# Altium footprint library Potentiometers.PcbLib: 4 footprints
Each footprint in its own frame and in the unit in brackets; x right, y up, seen from the top. Pads: shape width x height; smd on the part's side, far side on the other; paste and mask are expansions set on the pad; w line width, h text height; cw(c..) or ccw(c..) is an arc to the next point about the centre after c.
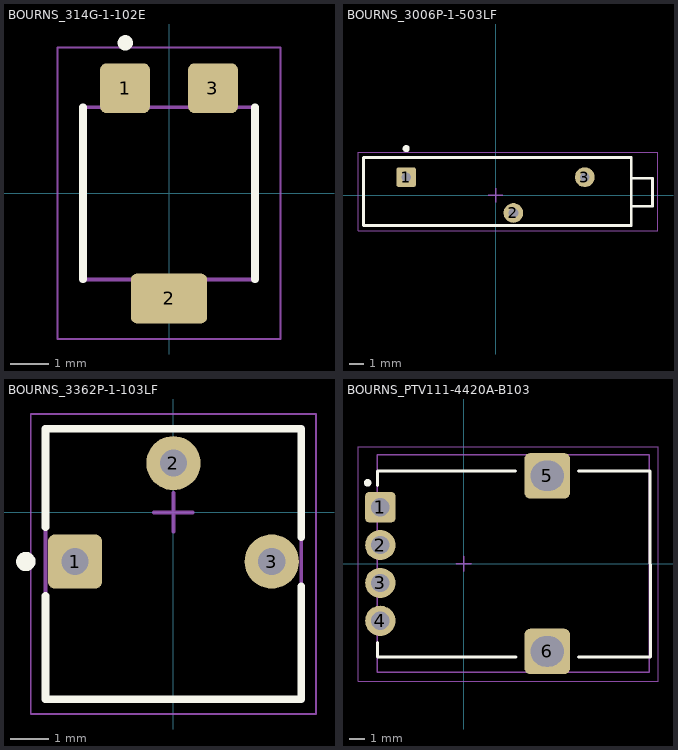
[diagram p0: the footprints below, top view; thin cyan lines are the x and y axes]

## BOURNS_314G-1-102E [mm] "10 kOhms 0.25W, 1/4W Gull Wing Surface Mount Trimmer Potentiometer Cermet 1.0 Turn Top Adjustment"
height 2.726
pads (3):
  rrect25% 1.3x1.3 smd paste+0 mask+0.05: 1(-1.15,2.75) 3(1.15,2.75)
  rrect25% 2x1.3 smd paste+0 mask+0.05: 2(0,-2.75)
Top Overlay:
  circle w0.2: c-1.143,3.937 r0.1
  lines w0.2: -2.25,-2.25 -2.25,2.25 ; 2.25,-2.25 2.25,2.25
Top Component Outline:
  lines w0.1: -2.25,-2.25 -2.25,2.25 2.25,2.25 2.25,-2.25 -2.25,-2.25
Top Courtyard:
  lines w0.05: -2.921,-3.81 -2.921,3.81 2.921,3.81 2.921,-3.81 -2.921,-3.81
Top Designator:
  text ".Designator" at -4.04,-0.476 h2
Top Assembly:
  lines w0.1: -2.25,-2.25 -2.25,2.25 2.25,2.25 2.25,-2.25 -2.25,-2.25
  text ".Designator" at -4.04,-0.476 h2
3D body "BOURNS_3314G-1-103E.step": height 2.73, standoff 0, extent -2.5,-3.099 2.5,3.099

## BOURNS_3006P-1-503LF [mm] "50 kOhms 0.75W, 3/4W PC Pins Through Hole Trimmer Potentiometer Cermet 15.0 Turn Side Adjustment"
height 6.6
pads (3):
  rrect25% 1.4x1.4 hole 0.7 paste-1000 mask+0.05: 1(-6.35,1.27)
  round 1.4 hole 0.7 paste-1000 mask+0.05: 2(1.27,-1.27) 3(6.35,1.27)
Top Overlay:
  circle w0.3: c-6.35,3.302 r0.1
  lines w0.2: 9.65,-0.8 11.17,-0.8 11.17,1.2 9.65,1.2 ; -9.398,-2.159 9.65,-2.159 9.65,2.667 -9.398,2.667 -9.398,-2.159
Top Component Outline:
  lines w0.1: 9.65,-0.8 11.17,-0.8 11.17,1.2 9.65,1.2 ; -9.398,-2.159 9.65,-2.159 9.65,2.667 -9.398,2.667 -9.398,-2.159
Top Courtyard:
  lines w0.05: -9.779,-2.54 11.557,-2.54 11.557,3.048 -9.779,3.048 -9.779,-2.54
Top Component Center:
  lines w0.1: -0.5,0 0.5,0 ; 0,-0.5 0,0.5
Top Designator:
  text ".Designator" at -4.04,-0.476 h2
Top Assembly:
  lines w0.1: 9.65,-0.8 11.17,-0.8 11.17,1.2 9.65,1.2 ; -9.398,-2.159 9.65,-2.159 9.65,2.667 -9.398,2.667 -9.398,-2.159
  text ".Designator" at -4.04,-0.476 h2
3D body "BOURNS_3006P-1-503LF.step": height 6.62, standoff -5.31, extent -9.398,-2.159 11.176,2.667

## BOURNS_3362P-1-103LF [mm] "10 kOhms 0.5W, 1/2W PC Pins Through Hole Trimmer Potentiometer Cermet 1.0 Turn Top Adjustment"
height 4.88
pads (3):
  rrect25% 1.4x1.4 hole 0.7 paste-1000 mask+0.05: 1(-2.54,-1.27)
  round 1.4 hole 0.7 paste-1000 mask+0.05: 2(0,1.27) 3(2.54,-1.27)
Top Overlay:
  circle w0.3: c-3.81,-1.27 r0.1
  lines w0.2: -3.302,-2.159 -3.302,-4.826 3.302,-4.826 3.302,-1.905 ; -3.302,-0.381 -3.302,2.159 3.302,2.159 3.302,-0.635
Top Component Outline:
  lines w0.1: -3.302,-4.826 -3.302,2.159 3.302,2.159 3.302,-4.826 -3.302,-4.826
Top Courtyard:
  lines w0.05: -3.683,-5.207 3.683,-5.207 3.683,2.54 -3.683,2.54 -3.683,-5.207
Top Component Center:
  lines w0.1: -0.5,0 0.5,0 ; 0,-0.5 0,0.5
Top Designator:
  text ".Designator" at -4.04,-0.476 h2
Top Assembly:
  lines w0.1: -3.302,-4.826 3.302,-4.826 3.302,2.159 -3.302,2.159 -3.302,-4.826
  text ".Designator" at -4.04,-0.476 h2
3D body "BOURNS_3362P-1-103LF.step": height 4.9, standoff -5.82, extent -3.275,-4.841 3.325,2.149

## BOURNS_PTV111-4420A-B103 [mm] "10k Ohm 1 Gang Linear Through Hole, Snap In Potentiometer None 1.0 Kierros Carbon 0.05W, 1/20W PC Pins, Board Locks"
pads (6):
  rrect25% 2x2 hole 1.2 paste+0 mask+0.05: 1(-5.512,3.725)
  round 2 hole 1.2 paste+0 mask+0.05: 2(-5.512,1.225) 3(-5.512,-1.275) 4(-5.512,-3.775)
  rrect25% 3x3 hole 2 slot 2.2 at 0 deg paste+0 mask+0.05: 5(5.513,5.8) 6(5.513,-5.8)
Top Overlay:
  circle w0.3: c-6.35,5.334 r0.1
  lines w0.2: -5.712,-5.2 -5.712,-6.175 3.438,-6.175 ; -5.712,5.175 -5.712,6.125 3.413,6.125 ; 7.588,-6.175 12.333,-6.175 12.312,6.125 7.588,6.125
Top Component Outline:
  lines w0.1: -5.712,-7.175 12.25,-7.175 12.25,7.2 -5.712,7.2 -5.712,-7.175
Top Courtyard:
  lines w0.05: -6.985,-7.775 12.827,-7.775 12.827,7.725 -6.985,7.725 -6.985,-7.775
Top Component Center:
  lines w0.1: -0.5,0 0.5,0 ; 0,-0.5 0,0.5
Top Designator:
  text ".Designator" at -4.04,-0.476 h2
Top Assembly:
  lines w0.1: -5.712,-7.175 12.25,-7.175 12.25,7.2 -5.712,7.2 -5.712,-7.175
  text ".Designator" at -4.04,-0.476 h2
3D body "BOURNS_PTV111-4420A.step": height 19.99, standoff -3.81, extent -5.687,-7.2 12.213,7.2